# Altium footprint library Shelestov_Inductors.PcbLib: 6 footprints
Each footprint in its own frame and in the unit in brackets; x right, y up, seen from the top. Pads: shape width x height; smd on the part's side, far side on the other; paste and mask are expansions set on the pad; w line width, h text height; cw(c..) or ccw(c..) is an arc to the next point about the centre after c.
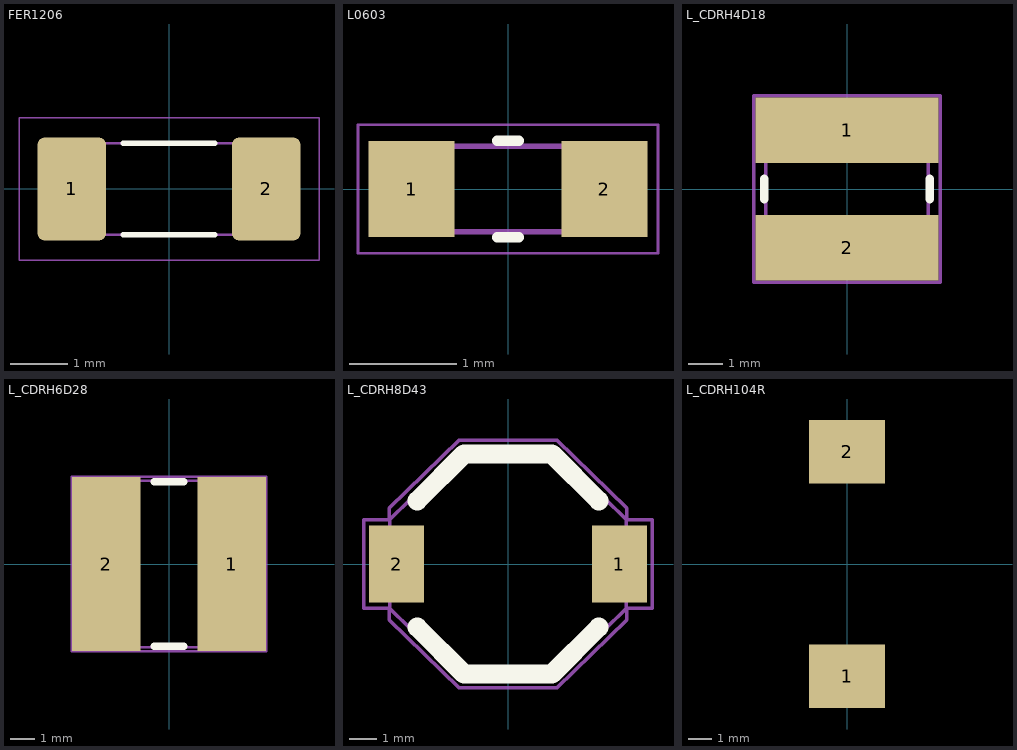
[diagram p0: the footprints below, top view; thin cyan lines are the x and y axes]

## FER1206 [mm]
pads (2):
  rrect20% 1.2x1.8 smd: 1(-1.7,0) 2(1.7,0)
Top Overlay:
  lines w0.1: -0.8,-0.8 0.8,-0.8 ; -0.8,0.8 0.8,0.8
Mechanical 13:
  lines w0.05: -1.6,-0.8 1.6,-0.8 1.6,0.8 -1.6,0.8 -1.6,-0.8
  text ".Designator" at -3.15,-0.316 h1.4
Mechanical 15:
  lines w0.025: -2.625,-1.25 2.625,-1.25 2.625,1.25 -2.625,1.25 -2.625,-1.25
3D body "User Library-ind_1206.step": height 1.1, standoff 0, extent -1.6,-0.8 1.6,0.8

## L0603 [mm]
pads (2):
  rect 0.8x0.9 smd: 1(-0.9,0) 2(0.9,0)
Top Overlay:
  lines w0.1: -0.1,-0.45 0.1,-0.45 ; -0.1,0.45 0.1,0.45
Mechanical 13:
  lines w0.05: -0.8,-0.4 0.8,-0.4 0.8,0.4 -0.8,0.4 -0.8,-0.4
  text ".Designator" at -0.65,-0.25 h0.5
Mechanical 15:
  lines w0.025: -1.4,-0.6 1.4,-0.6 1.4,0.6 -1.4,0.6 -1.4,-0.6
3D body: height 0.4, standoff 0, extent -0.6,-0.4 0.6,0.4
3D body: height 0.4, standoff 0, extent 0.6,-0.4 0.8,0.4
3D body: height 0.4, standoff 0, extent -0.8,-0.4 -0.6,0.4

## L_CDRH4D18 [mm]
pads (2):
  rect 5.3x1.9 smd: 1(0,1.7) 2(0,-1.7)
Top Overlay:
  lines w0.254: -2.4,-0.3 -2.4,0.3 ; 2.4,-0.3 2.4,0.3
Mechanical 13:
  lines w0.1: -2.35,-2.35 1.45,-2.35 2.35,-1.45 2.35,2.35 -1.45,2.35 -2.35,1.45 -2.35,-2.35
  text ".Designator" at -2.071,-0.925 h2
Mechanical 15:
  lines w0.1: -2.7,-2.7 -2.7,2.7 2.7,2.7 2.7,-2.7 -2.7,-2.7
3D body: height 2.1, standoff 0.05, extent -2.35,-2.35 2.35,2.35
3D body: height 1.25, standoff -1.25, extent 3.048,-2.159 3.048,-2.159
3D body: height 0.85, standoff 0, extent -2.35,2.35 -2.35,2.35
3D body: height 1, standoff 0.05, extent -2.35,-2.35 2.35,2.35
3D body: height 2, standoff 0, extent -2.25,1.55 -2.25,1.55
3D body: height 1, standoff 0.05, extent -2.25,1.55 -1.55,2.25
3D body: height 1, standoff 0.05, extent 1.55,-2.25 2.25,-1.55

## L_CDRH6D28 [mm]
pads (2):
  rect 2.75x7 smd: 1(2.525,0) 2(-2.525,0)
Top Overlay:
  lines w0.3: -0.6,-3.3 0.6,-3.3 ; -0.6,3.3 0.6,3.3
Mechanical 13:
  lines w0.1: -3.35,-3.35 3.35,-3.35 3.35,3.35 -3.35,3.35 -3.35,-3.35
  text ".Designator" at -2.071,-0.925 h3
Mechanical 15:
  lines w0.1: -3.9,-3.5 3.9,-3.5 3.9,3.5 -3.9,3.5 -3.9,-3.5
3D body "CDRH6D28.step": height 3, standoff 0.1, extent -3.35,-3.35 3.35,3.35

## L_CDRH8D43 [mm]
pads (2):
  rect 2x2.8 smd: 1(4.05,0) 2(-4.05,0)
Top Overlay:
  lines w0.7: -3.3,-2.3 -1.6,-4 1.6,-4 3.3,-2.3 ; -3.3,2.3 -1.6,4 1.6,4 3.3,2.3
Mechanical 13:
  lines w0.127: -4.3,-1.616 -1.644,-4.2 0,-4.2 1.644,-4.2 4.3,-1.616 4.3,0 4.3,1.616 1.644,4.2 0,4.2 -1.644,4.2 -4.3,1.616 -4.3,0 -4.3,-1.616
  text ".Designator" at -2.071,-0.925 h3
Mechanical 15:
  lines w0.127: -5.25,-1.6 -4.318,-1.6 -4.318,-2.032 -1.781,-4.5 1.781,-4.5 4.318,-2.032 4.318,-1.6 5.25,-1.6 5.25,1.6 4.318,1.6 4.318,2.032 1.781,4.5 -1.781,4.5 -4.318,2.032 -4.318,1.6 -5.25,1.6 -5.25,-1.6
3D body "CDRH8D43.step": height 4.5, standoff 0, extent -4.343,-4 4.343,4

## L_CDRH104R [mm]
pads (2):
  rect 3.2x2.7 smd: 1(0,-4.75) 2(0,4.75)
3D body "cdrh104r.STEP": height 4.05, standoff 0.05, extent -5.15,-5.25 5.15,5.25